# EAGLE library part BQ2400 (library BatteryChargeIC)
The bq2400x series ICs are advanced Li-Ion linear charge management devices for highly integrated and space-limited applications. They combine high-accuracy current and voltage regulation; FET pass-transistor and reverse-blocking Schottky; battery conditioning, temperature, or input-power monitoring; charge termination; charge-status indication; and charge timer in a small package. The bq2400x measures battery temperature using an external thermistor. For safety, the bq2400x inhibits charge until the battery temperature is within the user-defined thresholds. Alternatively, the user can monitor the input voltage to qualify charge. The bq2400x series then charge the battery in three phases: preconditioning, constant current, and constant voltage. If the battery voltage is below the internal low-voltage threshold, the bq2400x uses low- current precharge to condition the battery. A preconditioning timer provides additional safety. Following pre- conditioning, the bq2400x applies a constant-charge current to the battery. An external sense-resistor sets the magnitude of the current. The constant-current phase is maintained until the battery reaches the charge-regulation voltage. The bq2400x then transitions to the constant voltage phase. The user can configure the device for cells with either coke or graphite anodes. The accuracy of the voltage regulation is better than ±1% over the operating junction temperature and supply voltage range. The bq2400x automatically restarts the charge if the battery voltage falls below an internal recharge threshold.
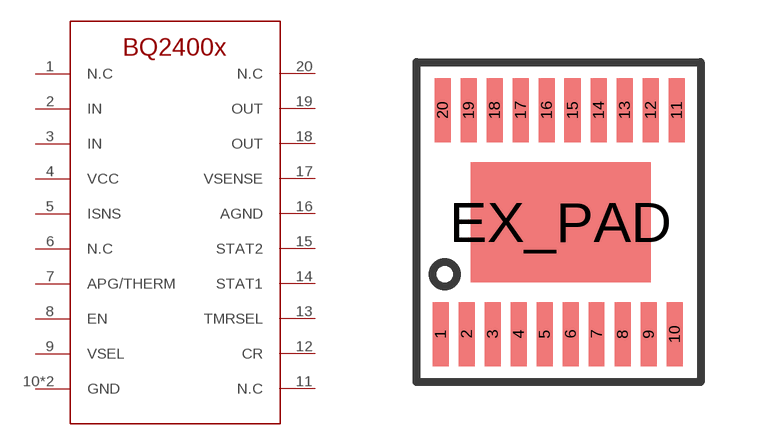
[diagram p0: symbol with the pads of HTSSOP-20; footprint HTSSOP-20]

Designator prefix U

## BQ24005PWP  [HTSSOP-20]
1  N.C  nc
2  IN  in
3  IN  in
4  VCC  pwr
5  ISNS
6  N.C  nc
7  APG/THERM
8  EN
9  VSEL
10  GND  pwr
11  N.C  nc
12  CR
13  TMRSEL
14  STAT1
15  STAT2
16  AGND  pwr
17  VSENSE
18  OUT  out
19  OUT  out
20  N.C  nc
EX_PAD  GND  pwr

## Footprint HTSSOP-20 (pad centres in mm)
smd 0.4 x 1.6: 1 0,0; 2 0.65,0; 3 1.3,0; 4 1.95,0; 5 2.6,0; 6 3.25,0; 7 3.9,0; 8 4.55,0; 9 5.2,0; 10 5.85,0; 11 5.9,5.6; 12 5.25,5.6; 13 4.6,5.6; 14 3.95,5.6; 15 3.3,5.6; 16 2.65,5.6; 17 2,5.6; 18 1.35,5.6; 19 0.7,5.6; 20 0.05,5.6
smd 4.5 x 3: EX_PAD 3,2.8